# Altium integrated library Resistors.IntLib: 8 symbols
Pins are listed as number, name and electrical type; pins without a type are passive.

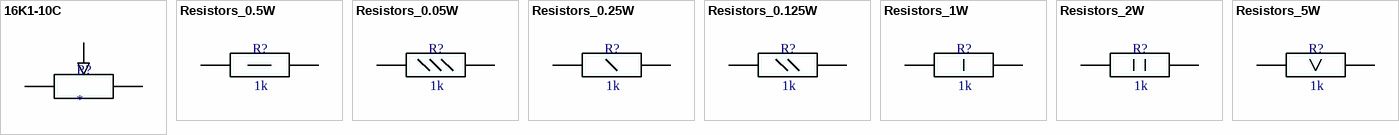
[diagram p0: symbols 16K1-10C to Resistors_5W]

## 16K1-10C
designator R?
16K1-10C
footprint 16k1
pins: 1, 2, 3

## Resistors_0.5W
designator R?  value 1k  (hidden comment: *)
footprint KNP_100
footprint Resistor_0201 (Chip Resistor, 2-Leads, Body 0,60x0,30mm, IPC Medium Density)
footprint Resistor_0402 (Chip Resistor, 2-Leads, Body 1,00x0,50mm, IPC Medium Density)
footprint Resistor_0603 (Chip Resistor, 2-Leads, Body 1,60x0,80mm, IPC Medium Density)
footprint Resistor_0805 (Chip Resistor, 2-Leads, Body 2,00x1,20mm, IPC Medium Density)
footprint Resistor_1206 (Chip Resistor, 2-Leads, Body 3,20x1,60mm, IPC Medium Density)
footprint Resistor_2010 (Chip Resistor, 2-Leads, Body 5,00x2,50mm, IPC Medium Density)
footprint Resistor_2512 (Chip Resistor, 2-Leads, Body 6,35x3,20mm, IPC Medium Density)
footprint C-4-1
pins: 1, 2

## Resistors_0.05W
designator R?  value 1k  (hidden comment: *)
footprint KNP_100
footprint Resistor_0201 (Chip Resistor, 2-Leads, Body 0,60x0,30mm, IPC Medium Density)
footprint Resistor_0402 (Chip Resistor, 2-Leads, Body 1,00x0,50mm, IPC Medium Density)
footprint Resistor_0603 (Chip Resistor, 2-Leads, Body 1,60x0,80mm, IPC Medium Density)
footprint Resistor_0805 (Chip Resistor, 2-Leads, Body 2,00x1,20mm, IPC Medium Density)
footprint Resistor_1206 (Chip Resistor, 2-Leads, Body 3,20x1,60mm, IPC Medium Density)
footprint Resistor_2010 (Chip Resistor, 2-Leads, Body 5,00x2,50mm, IPC Medium Density)
footprint Resistor_2512 (Chip Resistor, 2-Leads, Body 6,35x3,20mm, IPC Medium Density)
footprint C-4-1
pins: 1, 2

## Resistors_0.25W
designator R?  value 1k  (hidden comment: *)
footprint KNP_100
footprint Resistor_0201 (Chip Resistor, 2-Leads, Body 0,60x0,30mm, IPC Medium Density)
footprint Resistor_0402 (Chip Resistor, 2-Leads, Body 1,00x0,50mm, IPC Medium Density)
footprint Resistor_0603 (Chip Resistor, 2-Leads, Body 1,60x0,80mm, IPC Medium Density)
footprint Resistor_0805 (Chip Resistor, 2-Leads, Body 2,00x1,20mm, IPC Medium Density)
footprint Resistor_1206 (Chip Resistor, 2-Leads, Body 3,20x1,60mm, IPC Medium Density)
footprint Resistor_2010 (Chip Resistor, 2-Leads, Body 5,00x2,50mm, IPC Medium Density)
footprint Resistor_2512 (Chip Resistor, 2-Leads, Body 6,35x3,20mm, IPC Medium Density)
footprint C-4-1
pins: 1, 2

## Resistors_0.125W
designator R?  value 1k  (hidden comment: *)
footprint KNP_100
footprint Resistor_0201 (Chip Resistor, 2-Leads, Body 0,60x0,30mm, IPC Medium Density)
footprint Resistor_0402 (Chip Resistor, 2-Leads, Body 1,00x0,50mm, IPC Medium Density)
footprint Resistor_0603 (Chip Resistor, 2-Leads, Body 1,60x0,80mm, IPC Medium Density)
footprint Resistor_0805 (Chip Resistor, 2-Leads, Body 2,00x1,20mm, IPC Medium Density)
footprint Resistor_1206 (Chip Resistor, 2-Leads, Body 3,20x1,60mm, IPC Medium Density)
footprint Resistor_2010 (Chip Resistor, 2-Leads, Body 5,00x2,50mm, IPC Medium Density)
footprint Resistor_2512 (Chip Resistor, 2-Leads, Body 6,35x3,20mm, IPC Medium Density)
footprint C-4-1
pins: 1, 2

## Resistors_1W
designator R?  value 1k  (hidden comment: *)
footprint KNP_100
footprint Resistor_0201 (Chip Resistor, 2-Leads, Body 0,60x0,30mm, IPC Medium Density)
footprint Resistor_0402 (Chip Resistor, 2-Leads, Body 1,00x0,50mm, IPC Medium Density)
footprint Resistor_0603 (Chip Resistor, 2-Leads, Body 1,60x0,80mm, IPC Medium Density)
footprint Resistor_0805 (Chip Resistor, 2-Leads, Body 2,00x1,20mm, IPC Medium Density)
footprint Resistor_1206 (Chip Resistor, 2-Leads, Body 3,20x1,60mm, IPC Medium Density)
footprint Resistor_2010 (Chip Resistor, 2-Leads, Body 5,00x2,50mm, IPC Medium Density)
footprint Resistor_2512 (Chip Resistor, 2-Leads, Body 6,35x3,20mm, IPC Medium Density)
footprint C-4-1
pins: 1, 2

## Resistors_2W
designator R?  value 1k  (hidden comment: *)
footprint Resistor_0201 (Chip Resistor, 2-Leads, Body 0,60x0,30mm, IPC Medium Density)
footprint KNP_100
footprint Resistor_0402 (Chip Resistor, 2-Leads, Body 1,00x0,50mm, IPC Medium Density)
footprint Resistor_0603 (Chip Resistor, 2-Leads, Body 1,60x0,80mm, IPC Medium Density)
footprint Resistor_0805 (Chip Resistor, 2-Leads, Body 2,00x1,20mm, IPC Medium Density)
footprint Resistor_1206 (Chip Resistor, 2-Leads, Body 3,20x1,60mm, IPC Medium Density)
footprint Resistor_2010 (Chip Resistor, 2-Leads, Body 5,00x2,50mm, IPC Medium Density)
footprint Resistor_2512 (Chip Resistor, 2-Leads, Body 6,35x3,20mm, IPC Medium Density)
footprint C-4-1
pins: 1, 2

## Resistors_5W
designator R?  value 1k  (hidden comment: *)
footprint KNP_100
footprint Resistor_0201 (Chip Resistor, 2-Leads, Body 0,60x0,30mm, IPC Medium Density)
footprint Resistor_0402 (Chip Resistor, 2-Leads, Body 1,00x0,50mm, IPC Medium Density)
footprint Resistor_0603 (Chip Resistor, 2-Leads, Body 1,60x0,80mm, IPC Medium Density)
footprint Resistor_0805 (Chip Resistor, 2-Leads, Body 2,00x1,20mm, IPC Medium Density)
footprint Resistor_1206 (Chip Resistor, 2-Leads, Body 3,20x1,60mm, IPC Medium Density)
footprint Resistor_2010 (Chip Resistor, 2-Leads, Body 5,00x2,50mm, IPC Medium Density)
footprint Resistor_2512 (Chip Resistor, 2-Leads, Body 6,35x3,20mm, IPC Medium Density)
footprint C-4-1
pins: 1, 2